# Altium footprint library WH-BLE102-HW-V1.100.PcbLib: 1 footprints
Each footprint in its own frame and in the unit in brackets; x right, y up, seen from the top. Pads: shape width x height; smd on the part's side, far side on the other; paste and mask are expansions set on the pad; w line width, h text height; cw(c..) or ccw(c..) is an arc to the next point about the centre after c.
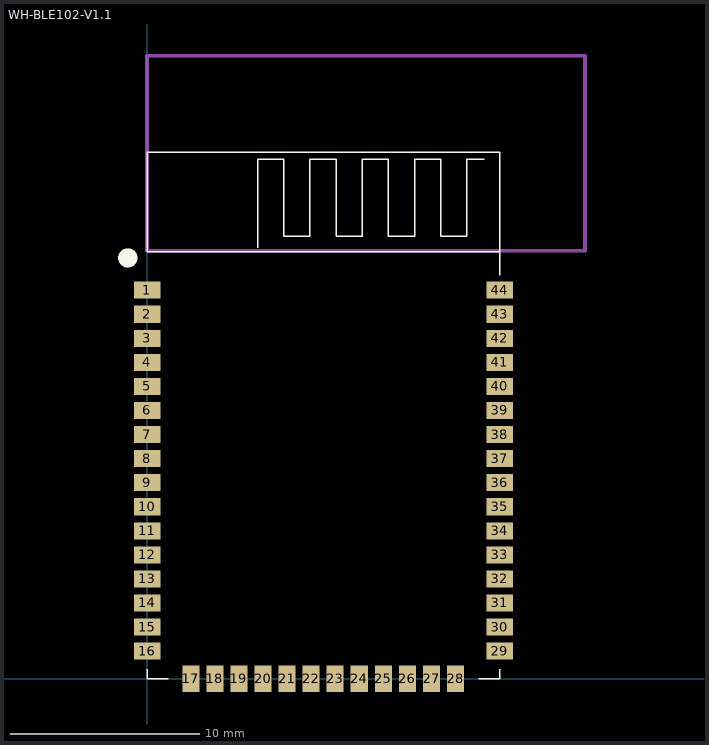
[diagram p0: the footprint, top view; thin cyan lines are the x and y axes]

## WH-BLE102-V1.1 [mm]
pads (44):
  rect 1.4x0.9 smd: 1(0,20.52) 2(0,19.25) 3(0,17.98) 4(0,16.71) 5(0,15.44) 6(0,14.17) 7(0,12.9) 8(0,11.63) 9(0,10.36) 10(0,9.09) 11(0,7.82) 12(0,6.55) 13(0,5.28) 14(0,4.01) 15(0,2.74) 16(0,1.47) 29(18.62,1.47) 30(18.62,2.74) 31(18.62,4.01) 32(18.62,5.28) 33(18.62,6.55) 34(18.62,7.82) 35(18.62,9.09) 36(18.62,10.36) 37(18.62,11.63) 38(18.62,12.9) 39(18.62,14.17) 40(18.62,15.44) 41(18.62,16.71) 42(18.62,17.98) 43(18.62,19.25) 44(18.62,20.52)
  rect 0.9x1.4 smd: 17(2.31,0) 18(3.58,0) 19(4.85,0) 20(6.12,0) 21(7.39,0) 22(8.66,0) 23(9.93,0) 24(11.2,0) 25(12.47,0) 26(13.74,0) 27(15.02,0) 28(16.29,0)
Top Overlay:
  circle w0.508: c-1.016,22.225 r0.254
  lines w0.07: 0,0.5 0,0 1.12,0 ; 5.836,22.76 5.836,23.36 5.836,27.43 ; 5.836,27.42 7.206,27.42 ; 7.216,23.37 7.216,27.43 7.216,23.36 8.596,23.36 8.596,27.43 ; 8.596,23.37 8.596,27.43 ; 9.976,23.37 9.976,27.43 ; 11.346,23.36 9.976,23.36 9.976,27.43 ; 11.356,23.35 11.356,27.42 ; 11.356,23.37 11.356,27.43 12.726,27.43 ; 12.736,23.37 14.116,23.37 14.116,27.43 14.116,23.36 ; 12.736,27.42 12.736,23.36 12.736,27.43 ; 14.116,27.42 15.496,27.42 ; 15.496,23.36 15.496,27.43 ; 16.876,27.42 17.796,27.42 ; 16.876,27.43 16.876,23.37 15.496,23.37 ; 17.5,0 18.62,0 18.62,0.5 ; 18.62,21.31 18.62,23.07 ; 18.62,21.5 18.62,27.813 0,27.813 0,22.55 18.62,22.55 ; 8.596,27.43 9.976,27.43 ; 15.496,23.37 15.496,27.43 ; 15.496,23.37 15.496,27.43
Mechanical 6:
  lines w0.203: 0,22.606 23.114,22.606 23.114,32.893 0,32.893 0,22.606
  text "Polygon Pour cutout" at 1.651,28.956 h1.02